# Altium footprint library SM_L_2020.PcbLib: 1 footprints
Each footprint in its own frame and in the unit in brackets; x right, y up, seen from the top. Pads: shape width x height; smd on the part's side, far side on the other; paste and mask are expansions set on the pad; w line width, h text height; cw(c..) or ccw(c..) is an arc to the next point about the centre after c.
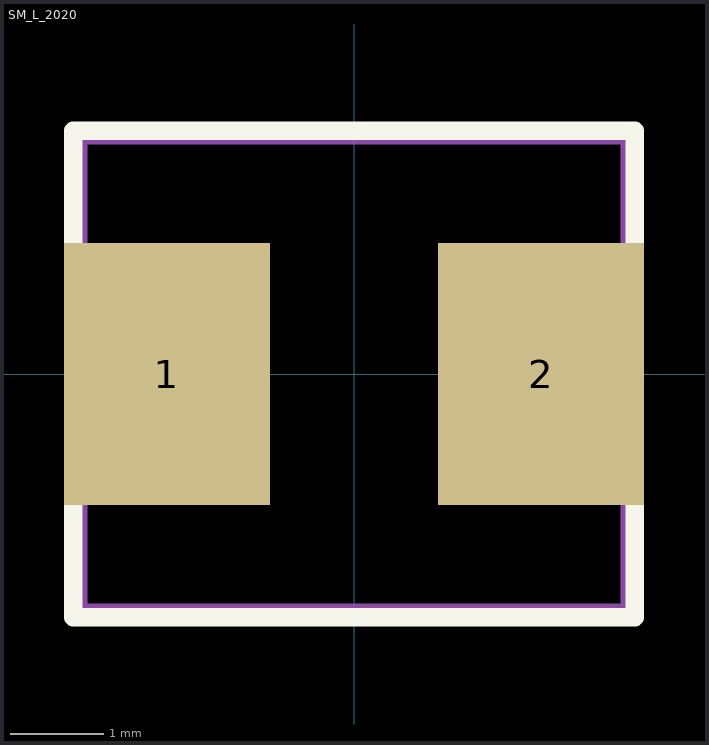
[diagram p0: the footprint, top view; thin cyan lines are the x and y axes]

## SM_L_2020 [mm]
height 3
pads (2):
  rect 2.2x2.8 smd: 1(-2,0) 2(2,0)
Top Overlay:
  lines w0.2: -3,-2.6 -3,2.6 3,2.6 3,-2.6 -3,-2.6
Mechanical 1:
  lines w0.1: -2.9,-2.5 2.9,-2.5 2.9,2.5 -2.9,2.5 -2.9,-2.5
3D body: height 3, standoff 0, extent -2.95,-2.55 2.95,2.55